# EAGLE library part PINHD-1X8 (library Kirbi_ControlBoard)
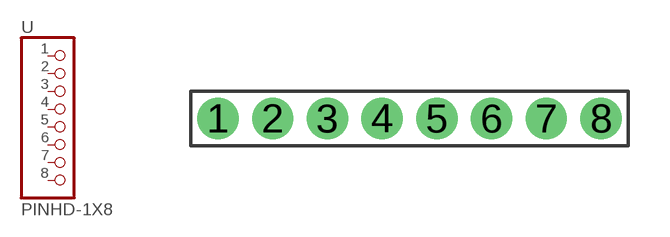
[diagram p5: symbol with the pads of PINNHEADER8-0.079''; footprint PINNHEADER8-0.079'']

Designator prefix -

## PINHD-1X8  [PINNHEADER8-0.079'']
1  1  pas
2  2  pas
3  3  pas
4  4  pas
5  5  pas
6  6  pas
7  7  pas
8  8  pas

## Footprint PINNHEADER8-0.079'' (pad centres in mm)
Through Hole Pinn Header 8 Pin (2mm)
drill 1 pad 1.422: 1 -7,0; 2 -5,0; 3 -3,0; 4 -1,0; 5 1,0; 6 3,0; 7 5,0; 8 7,0